# Altium footprint library Mini Circuits.PcbLib: 3 footprints
Each footprint in its own frame and in the unit in brackets; x right, y up, seen from the top. Pads: shape width x height; smd on the part's side, far side on the other; paste and mask are expansions set on the pad; w line width, h text height; cw(c..) or ccw(c..) is an arc to the next point about the centre after c.
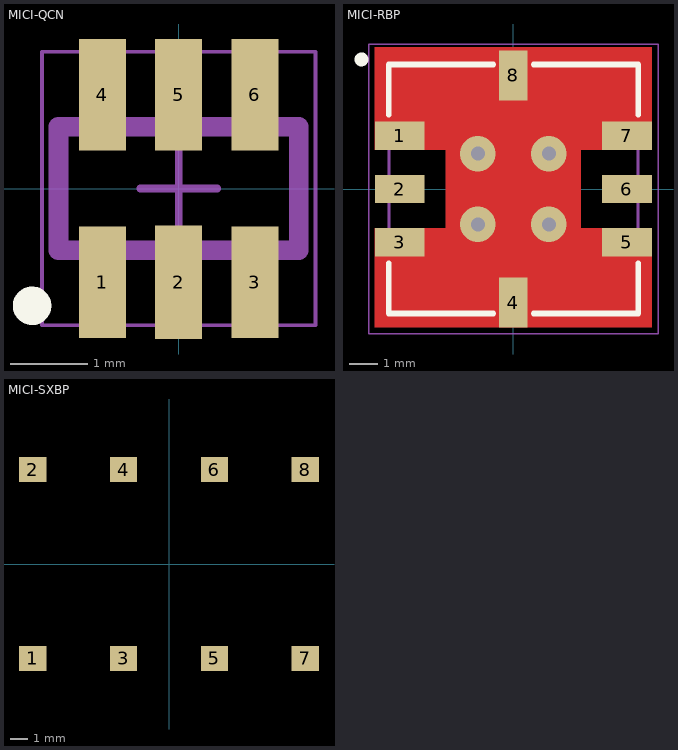
[diagram p0: the footprints below, top view; thin cyan lines are the x and y axes]

## MICI-QCN [mil]
height 35
pads (6):
  rect 24x57 smd: 1(-39,-48) 3(39,-48) 4(-39,48) 5(0,48) 6(39,48)
  rect 24x58 smd: 2(0,-48)
Top Overlay:
  circle w9.84: c-75,-60 r4.92
Mechanical 13:
  lines w10: -61.5,-31.5 -61.5,31.5 61.5,31.5 61.5,-31.5 -61.5,-31.5
Mechanical 15:
  lines w1.97: -70,-70 -70,70 70,70 70,-70 -70,-70
  lines w3.94: -19.68,0 19.68,0 ; 0,-19.68 0,19.68
3D body: height 35, standoff 0, extent -61.5,-31.5 61.5,31.5

## MICI-RBP [mil] "QFN, 8-Leads, Body 8.89x8.89mm, Pitch 4.45mm/1.93mm, IPC Medium Density"
height 100
pads (8):
  rect 70x40 smd: 1(-160,74.99) 2(-160,0) 3(-160,-75) 5(159.99,-75.01) 6(159.99,-0.01) 7(159.99,75)
  rect 40x70 smd: 4(-0.01,-160) 8(0,159.99)
via 50,-50 diameter 50 hole 20
via 50,50 diameter 50 hole 20
via -50,50 diameter 50 hole 20
via -50,-50 diameter 50 hole 20
Top Layer:
  region: -175,-175
  region: -195,55 -95,55 -95,-55 -195,-55 -195,-195 195,-195 195,-55 95,-55 95,55 195,55 195,200 -195,200
Top Overlay:
  circle w9.84: c-213.98,182.48 r4.92
  lines w7.87: -175.39,-104.41 -175.39,-175.4 -28.42,-175.4 ; -175.39,104.41 -175.39,175.39 -28.42,175.39 ; 28.79,-175.4 175.76,-175.4 175.76,-104.41 ; 28.79,175.39 175.76,175.39 175.76,104.41
Mechanical 13:
  circle w3.94: c-147.05,147.05 r19.68
  lines w3.94: -175.39,-175.4 175.76,-175.4 175.76,175.39 -175.39,175.39 -175.39,-175.4
Mechanical 15:
  lines w1.97: -203.74,-203.74 203.74,-203.74 203.74,203.74 -203.74,203.74 -203.74,-203.74
  lines w3.94: -19.68,0 19.68,0 ; 0,-19.68 0,19.68
3D body "User Library-RBP-275+.step": height 100, standoff 0, extent -175.39,-175.4 175.76,175.39

## MICI-SXBP [mil]
height 270
pads (8):
  rect 60x55 smd: 1(-300,-207.5) 2(-300,207.5) 3(-100,-207.5) 4(-100,207.5) 5(100,-207.5) 6(100,207.5) 7(300,-207.5) 8(300,207.5)
3D body "User Library-SXBP.step": height 189.76, standoff -0.39, extent -370.07,-220.07 370.09,220.09